# Altium schematic symbol library transformer.SchLib: 13 symbols
Pins are listed as number, name and electrical type; pins without a type are passive.

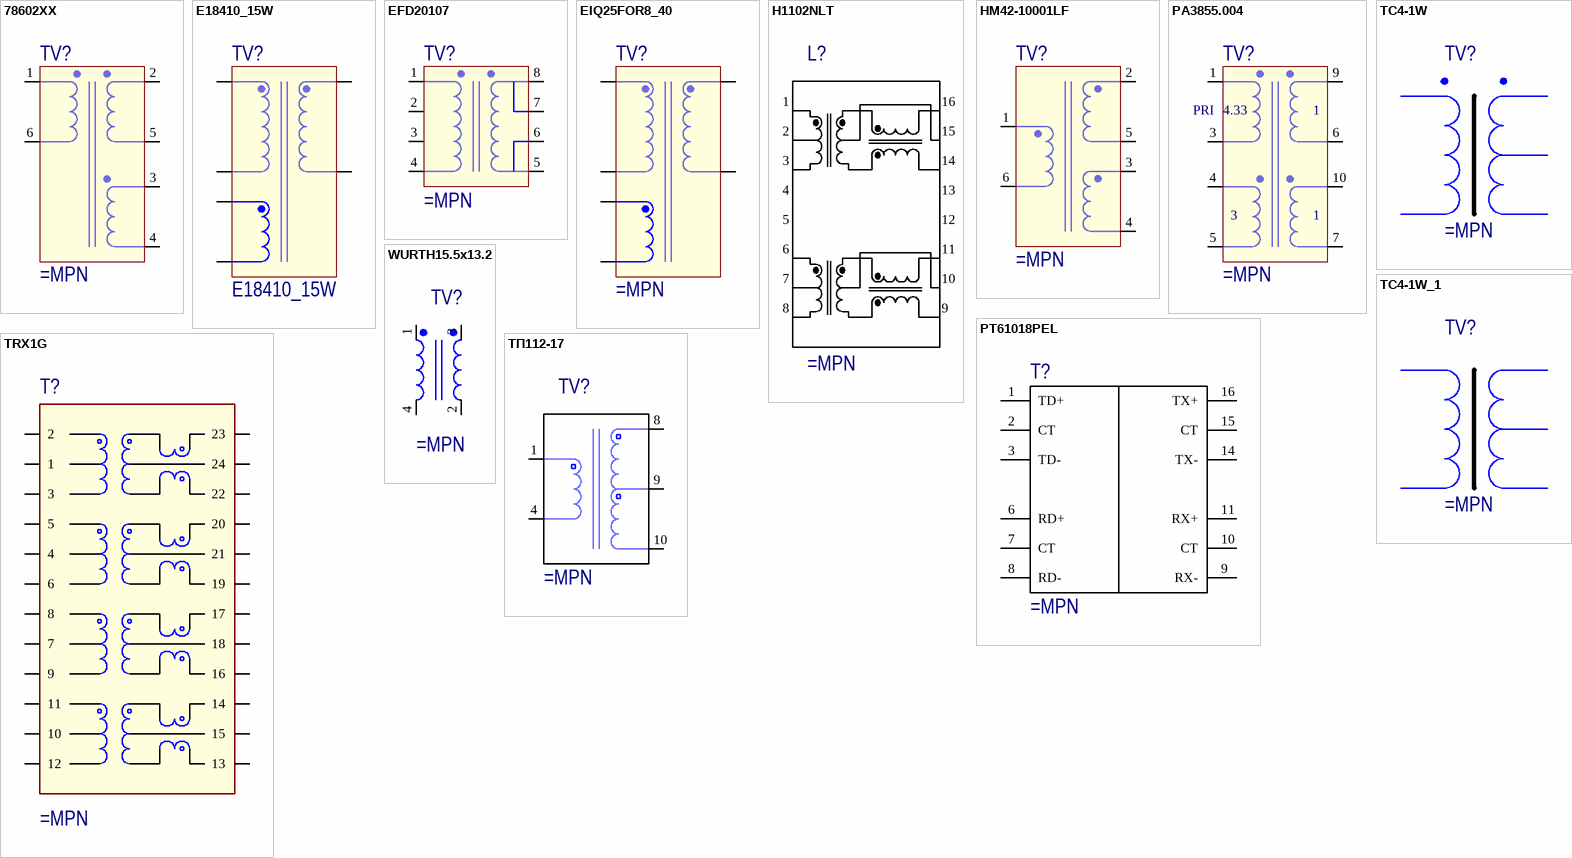
[diagram p0: symbols 78602XX to ТП112-17]

## 78602XX
designator TV?
pins: 1, 2, 3, 4, 5, 6

## E18410_15W
designator TV?
pins: 1 AUX_st, 2, 3, 4, 5, 6, 7, 8, 9, 10, 11, 12, 13, 14, 15, 16, 17, 18, 19, 20 AUX_f

## EFD20107
designator TV?
footprint ELP18410 (IPC Low Density)
pins: 1, 2, 3, 4, 5, 6, 7, 8

## EIQ25FOR8_40
designator TV?
pins: 1, 2, 3, 4, 5, 6, 7, 8, 9, 10, 11, 12, 13, 14, 15, 16, 17, 18, 19, 20, 21, 22, 23, 24, 25, 26, 27, 28

## H1102NLT
designator L?
pins: 1, 2, 3, 4, 5, 6, 7, 8, 9, 10, 11, 12, 13, 14, 15, 16

## HM42-10001LF
designator TV?
pins: 1, 2, 3, 4, 5, 6

## PA3855.004
designator TV?
pins: 1, 3, 4, 5, 6, 7, 9, 10
text: PRI; 4.33

## PT61018PEL
designator T?
Telecom Transformer 1CT:1CT; ComponentLink1Description: DataSheet; ComponentLink1URL: C:\DATASHEET\Ethernet\pt61018pel.pdf
pins: 1 TD+, 2 CT, 3 TD-, 4 NC hidden, 5 NC hidden, 6 RD+, 7 CT, 8 RD-, 9 RX-, 10 CT, 11 RX+, 12 NC hidden, 13 NC hidden, 14 TX-, 15 CT, 16 TX+

## TC4-1W
designator TV?
pins: 1 SECONDARY DOT, 2 SECONDARY CT, 3 SECONDARY, 4 PRIMARY, 6 PRIMARY DOT 

## TC4-1W_1
designator TV?
pins: 1 SECONDARY DOT, 2 SECONDARY CT, 3 SECONDARY, 4 PRIMARY, 6 PRIMARY DOT 

## TRX1G
designator T?
pins: 1, 2, 3, 4, 5, 6, 7, 8, 9, 10, 11, 12, 13, 14, 15, 16, 17, 18, 19, 20, 21, 22, 23, 24
1 alternate drawing of the same symbol

## WURTH15.5x13.2
designator TV?
pins: 1, 2, 3, 4

## ТП112-17
designator TV?
pins: 1, 4, 8, 9, 10